# Altium footprint library Flanery.PcbLib: 125 footprints (part 3 of 8)
Each footprint in its own frame and in the unit in brackets; x right, y up, seen from the top. Pads: shape width x height; smd on the part's side, far side on the other; paste and mask are expansions set on the pad; w line width, h text height; cw(c..) or ccw(c..) is an arc to the next point about the centre after c.
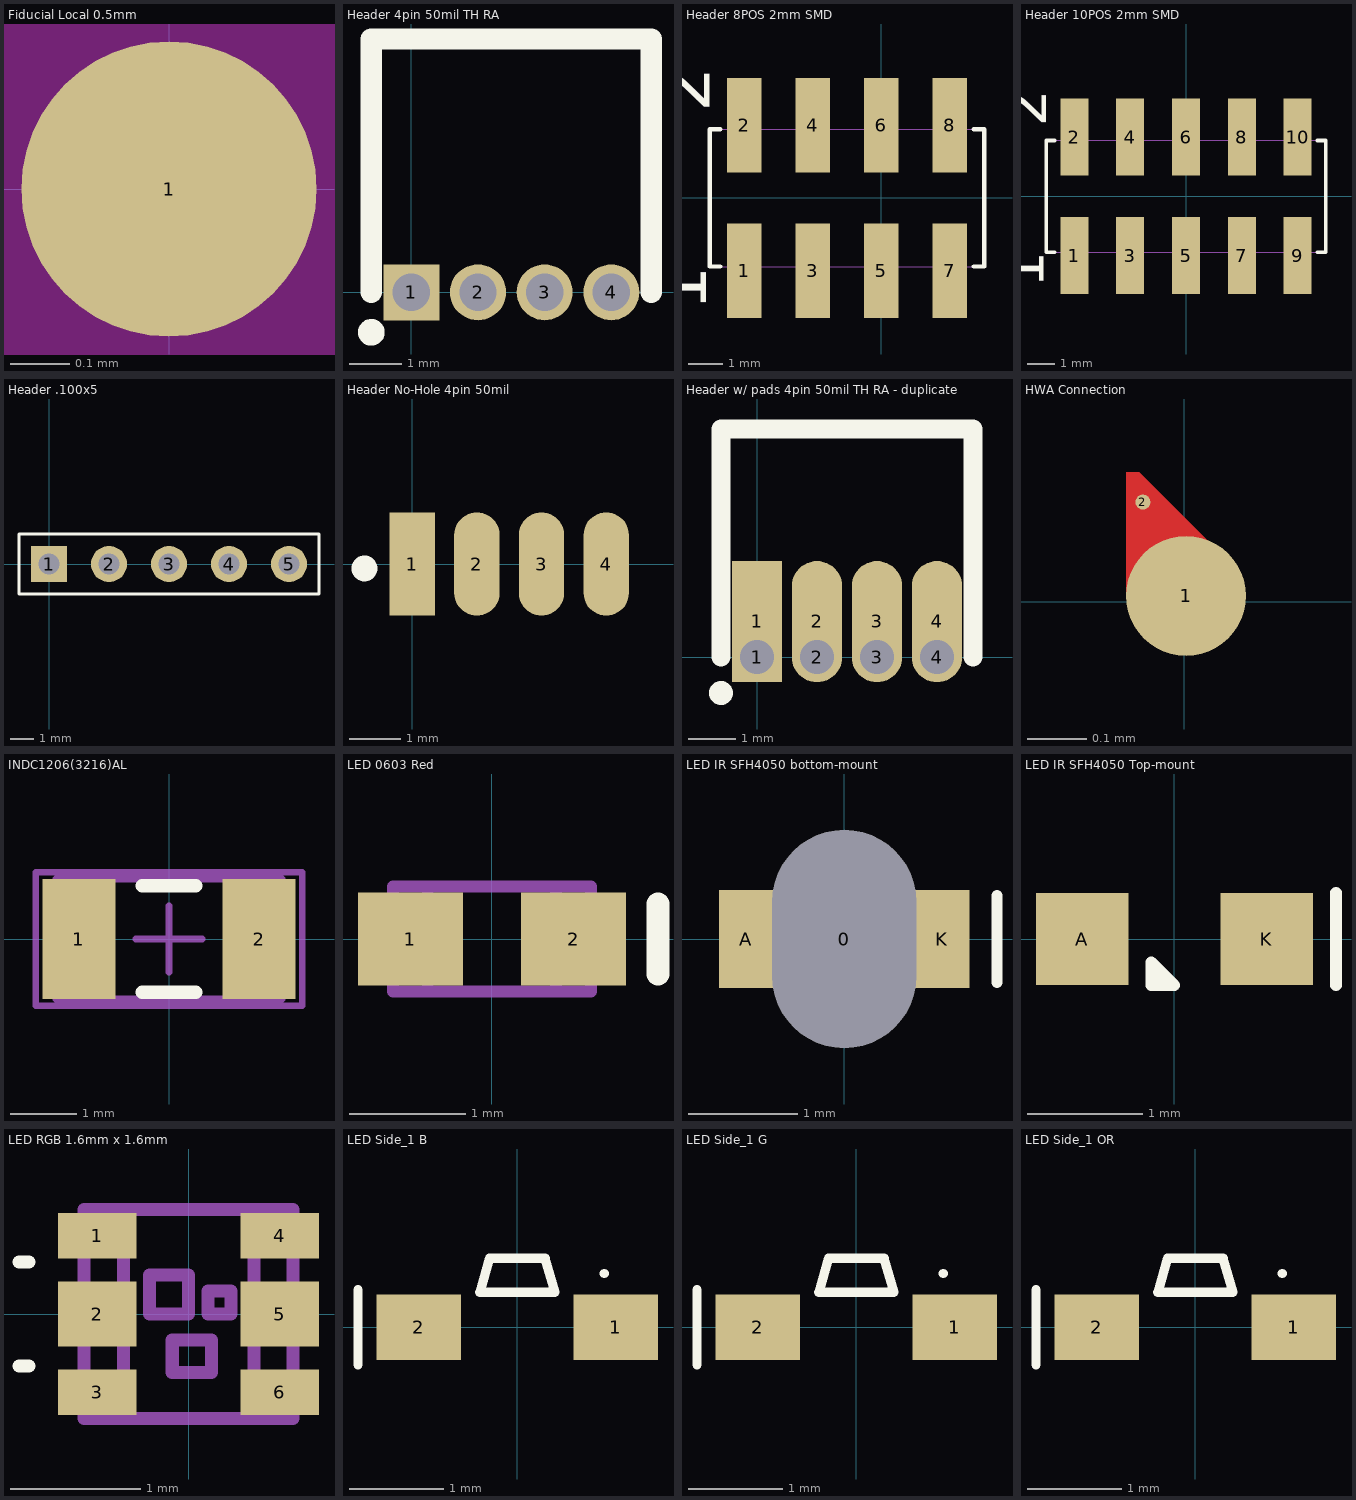
[diagram p2: the footprints below, top view; thin cyan lines are the x and y axes]

## Fiducial Local 0.5mm [mm]
pads (1):
  round 0.5 smd paste-0.6 mask+0.25: 1(0,0)
Top Solder keep-out:
  circle w0.5: c0,0 r0.25

## Header 4pin 50mil TH RA [mil] "50mil right-angle through-hole header 4-pin"
height 87
pads (4):
  rect 42x42 hole 28 mask+3: 1(0,0)
  round 42 hole 28 mask+3: 2(50,0) 3(100,0) 4(150,0)
Top Overlay:
  circle w10: c-30,-30 r5
  lines w16: -30,0 -30,190 180,190 180,0
3D body: height 87, standoff 0, extent -30,20 180,190

## Header 8POS 2mm SMD [mm] "no board guide"
height 5.3
pads (8):
  rect 1x2.75 smd: 1(-4,-2.125) 2(-4,2.125) 3(-2,-2.125) 4(-2,2.125) 5(0,-2.125) 6(0,2.125) 7(2,-2.125) 8(2,2.125)
Top Overlay:
  lines w0.127: -4.7,-2 -5,-2 -5,2 -4.7,2 ; 2.7,-2 3,-2 3,2 2.7,2
  text "2" at -5,2.5 h1.52
  text "1" at -5.1,-3.3 h1.52
Mechanical 1:
  lines w0.025: -5,-2 -5,2 3,2 3,-2 -5,-2
  lines w0.1: -4.1,-1.1 -3.9,-1.1 -3.9,-0.9 -4.1,-0.9 -4.1,-1.1 ; -4.1,0.9 -3.9,0.9 -3.9,1.1 -4.1,1.1 -4.1,0.9 ; -2.1,-1.1 -1.9,-1.1 -1.9,-0.9 -2.1,-0.9 -2.1,-1.1 ; -2.1,0.9 -1.9,0.9 -1.9,1.1 -2.1,1.1 -2.1,0.9 ; -0.1,-1.1 0.1,-1.1 0.1,-0.9 -0.1,-0.9 -0.1,-1.1 ; -0.1,0.9 0.1,0.9 0.1,1.1 -0.1,1.1 -0.1,0.9 ; 1.9,-1.1 2.1,-1.1 2.1,-0.9 1.9,-0.9 1.9,-1.1 ; 1.9,0.9 2.1,0.9 2.1,1.1 1.9,1.1 1.9,0.9
3D body: height 1.8, standoff 0, extent -5.019,-2.019 3.018,2.006
3D body: height 5.3, standoff 0, extent -4.099,-1.099 -3.901,-0.901
3D body: height 5.3, standoff 0, extent -2.099,-1.099 -1.901,-0.901
3D body: height 5.3, standoff 0, extent -4.099,0.901 -3.901,1.099
3D body: height 5.3, standoff 0, extent -2.099,0.901 -1.901,1.099
3D body: height 5.3, standoff 0, extent -0.099,-1.099 0.099,-0.901
3D body: height 5.3, standoff 0, extent 1.901,-1.099 2.099,-0.901
3D body: height 5.3, standoff 0, extent -0.099,0.901 0.099,1.099
3D body: height 5.3, standoff 0, extent 1.901,0.901 2.099,1.099

## Header 10POS 2mm SMD [mm] "no board guide"
height 5.3
pads (10):
  rect 1x2.75 smd: 1(-4,-2.125) 2(-4,2.125) 3(-2,-2.125) 4(-2,2.125) 5(0,-2.125) 6(0,2.125) 7(2,-2.125) 8(2,2.125) 9(4,-2.125) 10(4,2.125)
Top Overlay:
  lines w0.127: -4.7,-2 -5,-2 -5,2 -4.7,2 ; 4.7,-2 5,-2 5,2 4.7,2
  text "1" at -5.1,-3.3 h1.52
  text "2" at -5,2.5 h1.52
Mechanical 1:
  lines w0.025: -5,-2 5,-2 5,2 -5,2 -5,-2
  lines w0.1: -4.1,-1.1 -4.1,-0.9 -3.9,-0.9 -3.9,-1.1 -4.1,-1.1 ; -4.1,0.9 -4.1,1.1 -3.9,1.1 -3.9,0.9 -4.1,0.9 ; -2.1,-1.1 -2.1,-0.9 -1.9,-0.9 -1.9,-1.1 -2.1,-1.1 ; -2.1,0.9 -2.1,1.1 -1.9,1.1 -1.9,0.9 -2.1,0.9 ; -0.1,-1.1 -0.1,-0.9 0.1,-0.9 0.1,-1.1 -0.1,-1.1 ; -0.1,0.9 -0.1,1.1 0.1,1.1 0.1,0.9 -0.1,0.9 ; 1.9,-1.1 1.9,-0.9 2.1,-0.9 2.1,-1.1 1.9,-1.1 ; 1.9,0.9 1.9,1.1 2.1,1.1 2.1,0.9 1.9,0.9 ; 3.9,-1.1 3.9,-0.9 4.1,-0.9 4.1,-1.1 3.9,-1.1 ; 3.9,0.9 3.9,1.1 4.1,1.1 4.1,0.9 3.9,0.9
3D body: height 5.3, standoff 0, extent 3.901,0.901 4.099,1.099
3D body: height 5.3, standoff 0, extent 1.901,0.901 2.099,1.099
3D body: height 5.3, standoff 0, extent -0.099,0.901 0.099,1.099
3D body: height 5.3, standoff 0, extent 3.901,-1.099 4.099,-0.901
3D body: height 5.3, standoff 0, extent 1.901,-1.099 2.099,-0.901
3D body: height 5.3, standoff 0, extent -0.099,-1.099 0.099,-0.901
3D body: height 5.3, standoff 0, extent -2.099,0.901 -1.901,1.099
3D body: height 5.3, standoff 0, extent -4.099,0.901 -3.901,1.099
3D body: height 5.3, standoff 0, extent -2.099,-1.099 -1.901,-0.901
3D body: height 5.3, standoff 0, extent -4.099,-1.099 -3.901,-0.901
3D body: height 1.8, standoff 0, extent -5.013,-2.013 5.013,2.013

## Header .100x5 [mil] "100 mil, 5 pos"
pads (5):
  rect 60x60 hole 35 unplated: 1(0,0)
  round 60 hole 35 unplated: 2(100,0) 3(200,0) 4(300,0) 5(400,0)
Top Overlay:
  lines w5: -50,-50 450,-50 450,50 -50,50 -50,-50

## Header No-Hole 4pin 50mil [mil] "No-hole spring-contact pads 4-pin 50mil"
pads (4):
  rect 35x80 smd: 1(0,0)
  oval 35x80 smd: 2(50,0) 3(100,0) 4(150,0)
Top Overlay:
  circle w10: c-36.89,-3.43 r5

## Header w/ pads 4pin 50mil TH RA - duplicate [mil] "50mil right-angle through-hole header 4-pin"
height 87
pads (8):
  rect 42x42 hole 28 paste-50 mask+3: 1(0,0)
  rect 42x100 smd paste-50: 1(0,30)
  round 42 hole 28 paste-50 mask+3: 2(50,0) 3(100,0) 4(150,0)
  oval 42x100 smd paste-50: 2(50,30) 3(100,30) 4(150,30)
Top Overlay:
  circle w10: c-30,-30 r5
  lines w16: -30,0 -30,190 180,190 180,0
3D body: height 87, standoff 0, extent -30,20 180,190

## HWA Connection [mil] "Transition from trace width (12 mils) to Hot Wire Anemometer (2 mils)"
pads (2):
  round 8 smd paste-20: 1(0.12,0.38)
  round 1 smd paste-20: 2(-2.75,6.62)
Top Layer:
  region: -3.88,0.38 -3.88,8.62 -3,8.62 2.5,3.12 2.5,0.38

## INDC1206(3216)AL [mm] "Chip Inductor, Body 3.2x1.6mm, IPC High Density"
height 1.3
pads (2):
  rect 1.1x1.8 smd: 1(-1.35,0) 2(1.35,0)
Top Overlay:
  lines w0.2: -0.4,-0.8 0.4,-0.8 ; -0.4,0.8 0.4,0.8
Mechanical 13:
  lines w0.1: -1.7,-0.9 1.7,-0.9 1.7,0.9 -1.7,0.9 -1.7,-0.9
Mechanical 15:
  lines w0.1: -0.5,0 0.5,0 ; 0,-0.5 0,0.5 ; -2,-1 2,-1 2,1 -2,1 -2,-1
3D body: height 1.3, standoff 0, extent -1.7,-0.9 1.7,0.9

## LED 0603 Red [mm] "LED SMD Body 1.6 x 0.8 mm (LxW typ)"
height 0.55
pads (2):
  rect 0.9x0.8 smd: 1(-0.7,0) 2(0.7,0)
Top Overlay:
  lines w0.2: 1.425,-0.3 1.425,0.3
Mechanical 13:
  lines w0.1: -0.85,-0.45 0.85,-0.45 0.85,0.45 -0.85,0.45 -0.85,-0.45 ; -0.55,-0.45 -0.55,0.45 0.55,0.45 0.55,-0.45 -0.55,-0.45
3D body: height 0.4, standoff 0.2, extent 0.175,-0.088 0.35,0.088
3D body: height 0.9, standoff 0.2, extent -0.55,-0.45 0.55,0.45
3D body: height 0.21, standoff 0.01, extent -0.85,-0.425 -0.55,0.425
3D body: height 0.21, standoff 0.01, extent 0.55,-0.425 0.85,0.425
3D body: height 0.2, standoff 0.01, extent -0.825,-0.45 0.825,0.45

## LED IR SFH4050 bottom-mount [mm] "Osram non-standard IR LED"
height 0.65
pads (3):
  rect 0.8x0.8 hole 1.321 slot 2 at 90 deg unplated: 0(0,0)
  rect 0.5x0.9 smd paste-0.05: A(-0.9,0) K(0.9,0)
Top Overlay:
  lines w0.1: 1.4,-0.4 1.4,0.4
Mechanical 1:
  lines w0.1: -0.9,-0.375 -0.9,0.375 0.9,0.375 0.9,-0.375 -0.9,-0.375 ; -0.65,-0.4 -0.65,0.4 0.65,0.4 0.65,-0.4 -0.65,-0.4
3D body: height 0.13, standoff -0.53, extent -0.649,0.376 0.649,0.399
3D body: height 0.13, standoff -0.53, extent -0.649,-0.399 0.649,-0.376
3D body: height 0.13, standoff -0.53, extent -0.649,-0.399 0.649,-0.376
3D body: height 0.13, standoff -0.53, extent -0.649,-0.374 0.649,0.374
3D body: height 0.13, standoff 0, extent 0.651,-0.374 0.899,0.374
3D body: height 0.13, standoff 0, extent -0.899,-0.374 -0.651,0.374
3D body: height 0, standoff -0.53, extent 0.15,-0.05 0.25,0.05

## LED IR SFH4050 Top-mount [mm] "Osram non-standard IR LED"
height 0.65
pads (2):
  rect 0.8x0.8 smd paste-0.05: A(-0.8,0) K(0.8,0)
Top Overlay:
  lines w0.1: -0.1,-0.3 -0.2,-0.4 ; 1.4,-0.4 1.4,0.4 ; -0.2,-0.4 0,-0.4 -0.2,-0.2 -0.2,-0.4
3D body: height 0.66, standoff 0.5, extent -0.2,-0.05 -0.1,0.05
3D body: height 0.65, standoff 0.01, extent -0.65,-0.4 0.65,0.4
3D body: height 0.13, standoff 0, extent 0.65,-0.35 0.85,0.35
3D body: height 0.13, standoff 0, extent -0.85,-0.35 -0.65,0.35

## LED RGB 1.6mm x 1.6mm [mm]
height 0.35
pads (6):
  rect 0.6x0.35 smd mask+0.15: 1(-0.7,0.6) 3(-0.7,-0.6) 4(0.7,0.6) 6(0.7,-0.6)
  rect 0.6x0.5 smd mask+0.15: 2(-0.7,0) 5(0.7,0)
Top Overlay:
  lines w0.1: -1.3,-0.4 -1.225,-0.4 ; -1.3,0.4 -1.225,0.4
Mechanical 1:
  lines w0.1: -0.8,-0.8 -0.8,0.8 0.8,0.8 0.8,-0.8 -0.8,-0.8 ; -0.5,-0.8 0.5,-0.8 0.5,0.8 -0.5,0.8 -0.5,-0.8 ; -0.3,0 -0.3,0.3 0,0.3 0,0 -0.3,0 ; -0.125,-0.45 -0.125,-0.2 0.175,-0.2 0.175,-0.45 -0.125,-0.45 ; 0.15,0 0.15,0.175 0.325,0.175 0.325,0 0.15,0
3D body: height 0.1, standoff 0, extent -0.799,-0.799 -0.501,0.799
3D body: height 0.35, standoff 0, extent -0.499,-0.799 0.499,0.799
3D body: height 0.1, standoff 0, extent 0.501,-0.799 0.799,0.799
3D body: height 0.4, standoff 0, extent -0.299,0.001 -0.001,0.299
3D body: height 0.4, standoff 0, extent 0.151,0.001 0.324,0.174
3D body: height 0.4, standoff 0, extent -0.124,-0.449 0.174,-0.201

## LED Side_1 B [mm] "Side-Emitting Blue Panasonic LNJ"
height 0.5
pads (2):
  rect 0.9x0.7 smd: 1(1.05,0) 2(-1.05,0)
Top Overlay:
  lines w0.1: -1.7,-0.4 -1.7,0.4 ; -0.4,0.375 -0.297,0.737 0.297,0.737 0.4,0.375 -0.4,0.375 ; 0.925,0.575 0.925,0.576
3D body: height 0.49, standoff 0.06, extent -0.471,-0.406 -0.319,-0.356
3D body: height 0.5, standoff 0.05, extent -0.914,-0.381 0.914,0.381
3D body: height 0.5, standoff 0.05, extent -0.673,0.381 0.699,0.737

## LED Side_1 G [mm] "Side-Emitting Green Panasonic LNJ"
height 0.5
pads (2):
  rect 0.9x0.7 smd: 1(1.05,0) 2(-1.05,0)
Top Overlay:
  lines w0.1: -1.7,-0.4 -1.7,0.4 ; -0.4,0.375 -0.297,0.737 0.297,0.737 0.4,0.375 -0.4,0.375 ; 0.925,0.575 0.925,0.576
3D body: height 0.5, standoff 0.25, extent -0.686,-0.406 0.686,-0.356
3D body: height 0.5, standoff 0.05, extent -0.673,0.381 0.699,0.737
3D body: height 0.5, standoff 0.05, extent -0.914,-0.381 0.914,0.381

## LED Side_1 OR [mm] "Side-Emitting Orange Panasonic LNJ"
height 0.5
pads (2):
  rect 0.9x0.7 smd: 1(1.05,0) 2(-1.05,0)
Top Overlay:
  lines w0.1: -1.7,-0.4 -1.7,0.4 ; -0.4,0.375 -0.297,0.737 0.297,0.737 0.4,0.375 -0.4,0.375 ; 0.925,0.575 0.925,0.576
3D body: height 0.49, standoff 0.06, extent -0.471,-0.406 -0.319,-0.356
3D body: height 0.5, standoff 0.05, extent -0.673,0.381 0.699,0.737
3D body: height 0.5, standoff 0.05, extent -0.914,-0.381 0.914,0.381